# EAGLE library part P092S (library pot-tt_electronics)
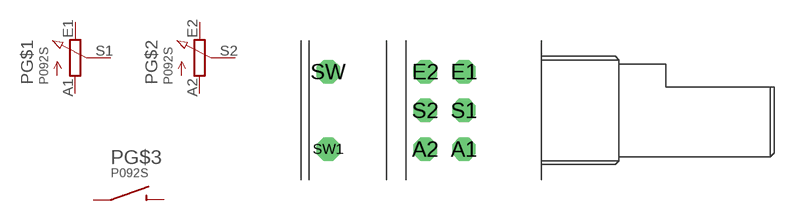
[diagram p1: symbol with the pads of P092S; footprint P092S]

Designator prefix P; gates G$1=POT_EU- G$2=POT_EU- G$3=SW

## P092S  [P092S]
A1  G$1:A  pas
A2  G$2:A  pas
E1  G$1:E  pas
E2  G$2:E  pas
S1  G$1:S  pas
S2  G$2:S  pas
SW  G$3:SW  pas
SW1  G$3:SW1  pas

## Footprint P092S (pad centres in mm)
drill 1 octagon: A1 -5,-2.5; A2 -7.5,-2.5; E1 -5,2.5; E2 -7.5,2.5; S1 -5,0; S2 -7.5,0; SW -13.75,2.5; SW1 -13.75,-2.5